# Altium footprint library CONNECTOR.PcbLib: 181 footprints (part 6 of 12)
Each footprint in its own frame and in the unit in brackets; x right, y up, seen from the top. Pads: shape width x height; smd on the part's side, far side on the other; paste and mask are expansions set on the pad; w line width, h text height; cw(c..) or ccw(c..) is an arc to the next point about the centre after c.
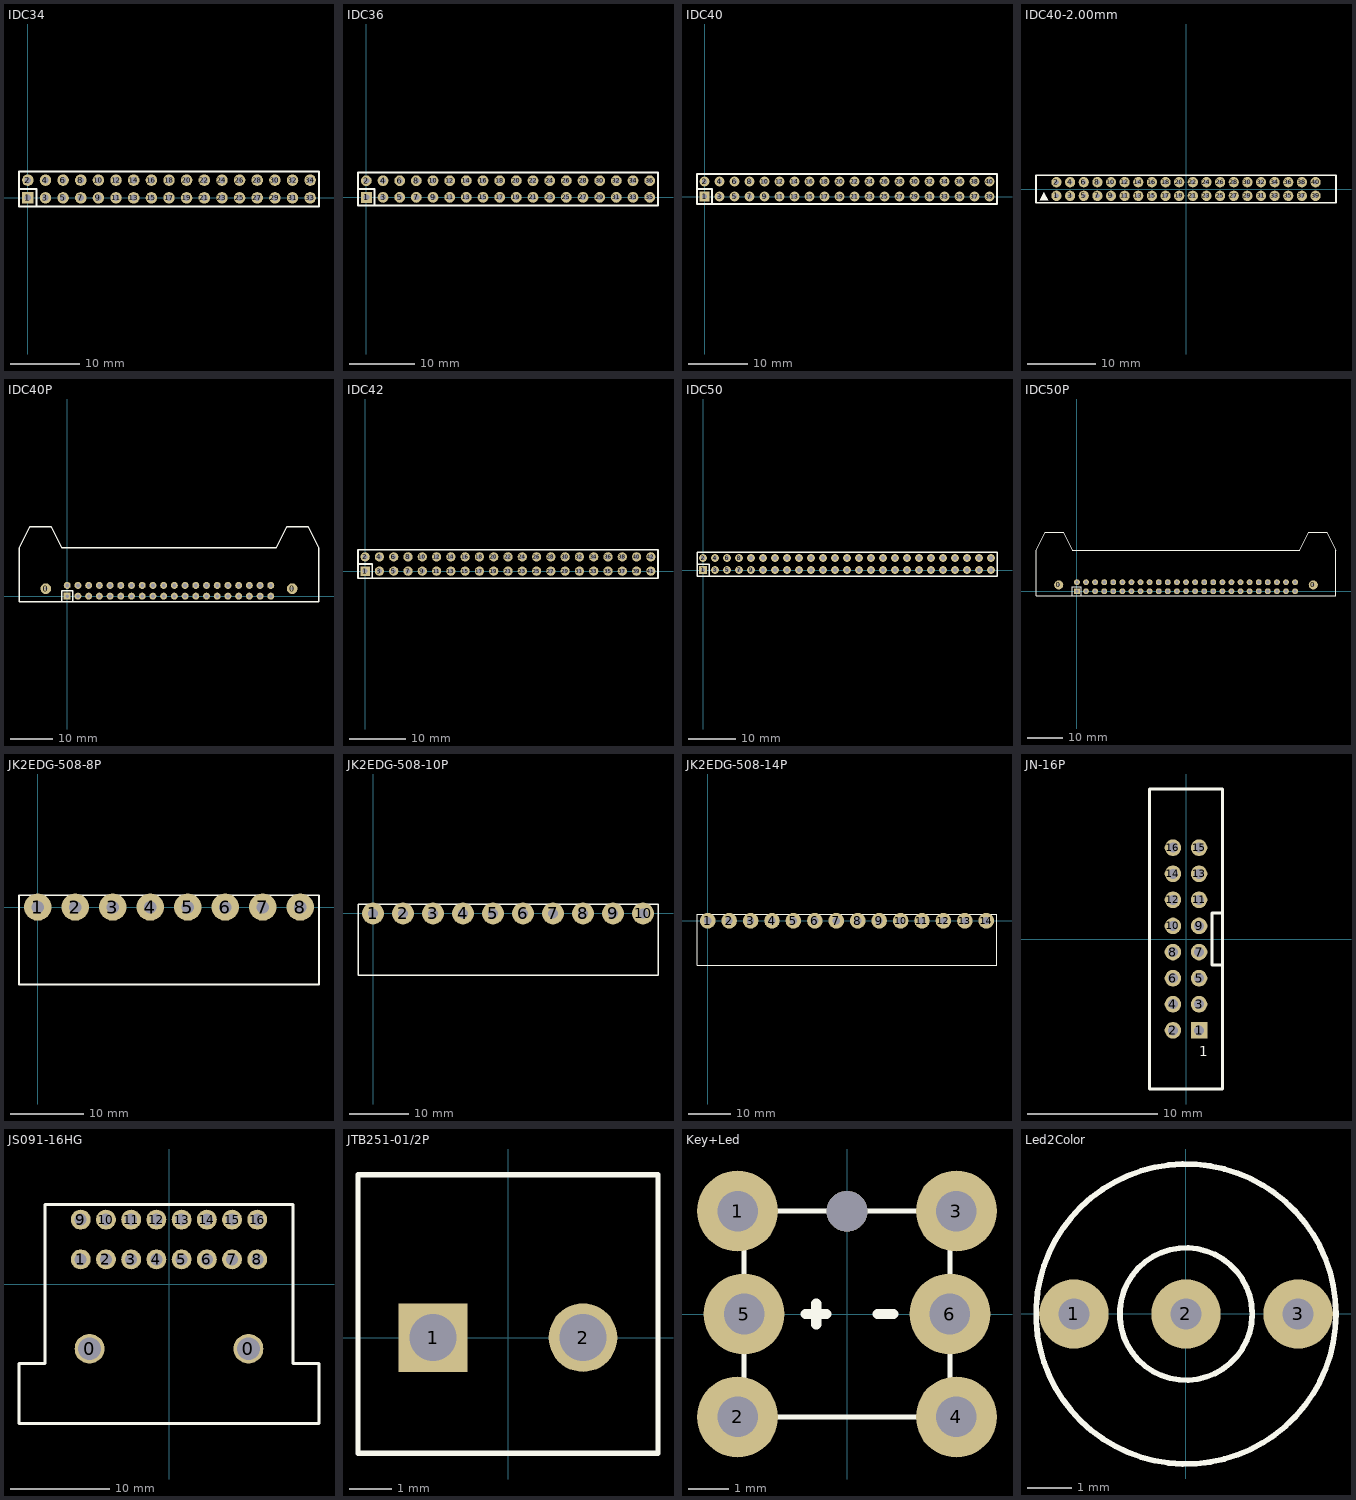
[diagram p5: the footprints below, top view; thin cyan lines are the x and y axes]

## IDC34 [mil]
pads (34):
  rect 65x65 hole 35: 1(0,0)
  round 65 hole 35: 2(0,100) 3(100,0) 4(100,100) 5(200,0) 6(200,100) 7(300,0) 8(300,100) 9(400,0) 10(400,100) 11(500,0) 12(500,100) 13(600,0) 14(600,100) 15(700,0) 16(700,100) 17(800,0) 18(800,100) 19(900,0) 20(900,100) 21(1000,0) 22(1000,100) 23(1100,0) 24(1100,100) 25(1200,0) 26(1200,100) 27(1300,0) 28(1300,100) 29(1400,0) 30(1400,100) 31(1500,0) 32(1500,100) 33(1600,0) 34(1600,100)
Top Overlay:
  lines w12: -50,50 50,50 50,-50 ; -50,-50 -50,150 1650,150 1650,-50 -50,-50

## IDC36 [mil]
pads (36):
  rect 65x65 hole 35: 1(0,0)
  round 65 hole 35: 2(0,100) 3(100,0) 4(100,100) 5(200,0) 6(200,100) 7(300,0) 8(300,100) 9(400,0) 10(400,100) 11(500,0) 12(500,100) 13(600,0) 14(600,100) 15(700,0) 16(700,100) 17(800,0) 18(800,100) 19(900,0) 20(900,100) 21(1000,0) 22(1000,100) 23(1100,0) 24(1100,100) 25(1200,0) 26(1200,100) 27(1300,0) 28(1300,100) 29(1400,0) 30(1400,100) 31(1500,0) 32(1500,100) 33(1600,0) 34(1600,100) 35(1700,0) 36(1700,100)
Top Overlay:
  lines w12: -50,50 50,50 50,-50 ; -50,-50 -50,150 1750,150 1750,-50 -50,-50

## IDC40 [mil]
pads (40):
  rect 65x65 hole 35: 1(0,0)
  round 65 hole 35: 2(0,100) 3(100,0) 4(100,100) 5(200,0) 6(200,100) 7(300,0) 8(300,100) 9(400,0) 10(400,100) 11(500,0) 12(500,100) 13(600,0) 14(600,100) 15(700,0) 16(700,100) 17(800,0) 18(800,100) 19(900,0) 20(900,100) 21(1000,0) 22(1000,100) 23(1100,0) 24(1100,100) 25(1200,0) 26(1200,100) 27(1300,0) 28(1300,100) 29(1400,0) 30(1400,100) 31(1500,0) 32(1500,100) 33(1600,0) 34(1600,100) 35(1700,0) 36(1700,100) 37(1800,0) 38(1800,100) 39(1900,0) 40(1900,100)
Top Overlay:
  lines w12: -50,50 50,50 50,-50 ; -50,-50 -50,150 1950,150 1950,-50 -50,-50

## IDC40-2.00mm [mm] "2mm间距,焊接排线座"
height 6.5
pads (40):
  round 1.5 hole 0.7: 1(-19,-1) 2(-19,1) 3(-17,-1) 4(-17,1) 5(-15,-1) 6(-15,1) 7(-13,-1) 8(-13,1) 9(-11,-1) 10(-11,1) 11(-9,-1) 12(-9,1) 13(-7,-1) 14(-7,1) 15(-5,-1) 16(-5,1) 17(-3,-1) 18(-3,1) 19(-1,-1) 20(-1,1) 21(1,-1) 22(1,1) 23(3,-1) 24(3,1) 25(5,-1) 26(5,1) 27(7,-1) 28(7,1) 29(9,-1) 30(9,1) 31(11,-1) 32(11,1) 33(13,-1) 34(13,1) 35(15,-1) 36(15,1) 37(17,-1) 38(17,1) 39(19,-1) 40(19,1)
Top Overlay:
  region: -20.828,-0.457 -21.438,-1.676 -20.218,-1.676
  lines w0.254: -22,-2 -22,2 22,2 22,-2 -22,-2

## IDC40P [mil]
pads (42):
  round 100 hole 28: 0(-200,70) 0(2100,70)
  rect 65x65 hole 35: 1(0,0)
  round 65 hole 35: 2(0,100) 3(100,0) 4(100,100) 5(200,0) 6(200,100) 7(300,0) 8(300,100) 9(400,0) 10(400,100) 11(500,0) 12(500,100) 13(600,0) 14(600,100) 15(700,0) 16(700,100) 17(800,0) 18(800,100) 19(900,0) 20(900,100) 21(1000,0) 22(1000,100) 23(1100,0) 24(1100,100) 25(1200,0) 26(1200,100) 27(1300,0) 28(1300,100) 29(1400,0) 30(1400,100) 31(1500,0) 32(1500,100) 33(1600,0) 34(1600,100) 35(1700,0) 36(1700,100) 37(1800,0) 38(1800,100) 39(1900,0) 40(1900,100)
Top Overlay:
  lines w12: -50,-50 -50,50 50,50 50,-50 ; -450,-50 2350,-50 2350,450 2250,650 2050,650 1950,450 -50,450 -150,650 -350,650 -450,450 -450,-50

## IDC42 [mil]
height 275.59
pads (42):
  rect 65x65 hole 35: 1(0,0)
  round 65 hole 35: 2(0,100) 3(100,0) 4(100,100) 5(200,0) 6(200,100) 7(300,0) 8(300,100) 9(400,0) 10(400,100) 11(500,0) 12(500,100) 13(600,0) 14(600,100) 15(700,0) 16(700,100) 17(800,0) 18(800,100) 19(900,0) 20(900,100) 21(1000,0) 22(1000,100) 23(1100,0) 24(1100,100) 25(1200,0) 26(1200,100) 27(1300,0) 28(1300,100) 29(1400,0) 30(1400,100) 31(1500,0) 32(1500,100) 33(1600,0) 34(1600,100) 35(1700,0) 36(1700,100) 37(1800,0) 38(1800,100) 39(1900,0) 40(1900,100) 41(2000,0) 42(2000,100)
Top Overlay:
  lines w12: -50,50 50,50 50,-50 ; -50,-50 2050,-50 2050,150 -50,150 -50,-50

## IDC50 [mil]
pads (50):
  rect 65x65 hole 35: 1(0,0)
  round 65 hole 35: 2(0,100) 3(100,0) 4(100,100) 5(200,0) 6(200,100) 7(300,0) 8(300,100) 9(400,0) 10(400,100) 11(500,0) 12(500,100) 13(600,0) 14(600,100) 15(700,0) 16(700,100) 17(800,0) 18(800,100) 19(900,0) 20(900,100) 21(1000,0) 22(1000,100) 23(1100,0) 24(1100,100) 25(1200,0) 26(1200,100) 27(1300,0) 28(1300,100) 29(1400,0) 30(1400,100) 31(1500,0) 32(1500,100) 33(1600,0) 34(1600,100) 35(1700,0) 36(1700,100) 37(1800,0) 38(1800,100) 39(1900,0) 40(1900,100) 41(2000,0) 42(2000,100) 43(2100,0) 44(2100,100) 45(2200,0) 46(2200,100) 47(2300,0) 48(2300,100) 49(2400,0) 50(2400,100)
Top Overlay:
  lines w12: -50,50 50,50 50,-50 ; -50,-50 -50,150 2450,150 2450,-50 -50,-50

## IDC50P [mil]
pads (52):
  round 100 hole 28: 0(-200,70) 0(2600,70)
  rect 65x65 hole 35: 1(0,0)
  round 65 hole 35: 2(0,100) 3(100,0) 4(100,100) 5(200,0) 6(200,100) 7(300,0) 8(300,100) 9(400,0) 10(400,100) 11(500,0) 12(500,100) 13(600,0) 14(600,100) 15(700,0) 16(700,100) 17(800,0) 18(800,100) 19(900,0) 20(900,100) 21(1000,0) 22(1000,100) 23(1100,0) 24(1100,100) 25(1200,0) 26(1200,100) 27(1300,0) 28(1300,100) 29(1400,0) 30(1400,100) 31(1500,0) 32(1500,100) 33(1600,0) 34(1600,100) 35(1700,0) 36(1700,100) 37(1800,0) 38(1800,100) 39(1900,0) 40(1900,100) 41(2000,0) 42(2000,100) 43(2100,0) 44(2100,100) 45(2200,0) 46(2200,100) 47(2300,0) 48(2300,100) 49(2400,0) 50(2400,100)
Top Overlay:
  lines w12: -50,-50 -50,50 50,50 50,-50 ; -450,-50 2850,-50 2850,450 2750,650 2550,650 2450,450 -50,450 -150,650 -350,650 -450,450 -450,-50

## JK2EDG-508-8P [mm] "5.08mm绿色8pin"
height 7.8
pads (8):
  round 3.7 hole 1.7: 1(0,0) 2(5.08,0) 3(10.16,0) 4(15.24,0) 5(20.32,0) 6(25.4,0) 7(30.48,0) 8(35.56,0)
Top Overlay:
  lines w0.254: -2.54,-10.5 38.1,-10.5 38.1,1.6 -2.54,1.6 -2.54,-10.5

## JK2EDG-508-10P [mm] "5.08mm绿色10pin"
height 7.8
pads (10):
  round 3.7 hole 1.7: 1(0,0) 2(5.08,0) 3(10.16,0) 4(15.24,0) 5(20.32,0) 6(25.4,0) 7(30.48,0) 8(35.56,0) 9(40.64,0) 10(45.72,0)
Top Overlay:
  lines w0.254: -2.54,-10.5 48.26,-10.5 48.26,1.6 -2.54,1.6 -2.54,-10.5

## JK2EDG-508-14P [mm] "5.08mm绿色14pin"
height 7.8
pads (14):
  round 3.7 hole 1.7: 1(0,0) 2(5.08,0) 3(10.16,0) 4(15.24,0) 5(20.32,0) 6(25.4,0) 7(30.48,0) 8(35.56,0) 9(40.64,0) 10(45.72,0) 11(50.8,0) 12(55.88,0) 13(60.96,0) 14(66.04,0)
Top Overlay:
  lines w0.254: -2.54,-10.5 -2.54,1.6 68.58,1.6 68.58,-10.5 -2.54,-10.5

## JN-16P [mm] "Pitch 2.0mm 简牛插座"
height 6
pads (16):
  rect 1.27x1.27 hole 0.762: 1(1,-7)
  round 1.27 hole 0.762: 2(-1,-7) 3(1,-5) 4(-1,-5) 5(1,-3) 6(-1,-3) 7(1,-1) 8(-1,-1) 9(1,1) 10(-1,1) 11(1,3) 12(-1,3) 13(1,5) 14(-1,5) 15(1,7) 16(-1,7)
Top Overlay:
  lines w0.254: 2.8,-2 2,-2 2,2 2.8,2 ; -2.8,-11.5 -2.8,11.5 2.8,11.5 2.8,-11.5 -2.8,-11.5
  text "1" at 1,-9 h0.76

## JS091-16HG [mm]
pads (18):
  round 3 hole 2.3: 0(-8,-6.5) 0(8,-6.5)
  round 2 hole 1.2: 1(-8.89,2.5) 2(-6.35,2.5) 3(-3.81,2.5) 4(-1.27,2.5) 5(1.27,2.5) 6(3.81,2.5) 7(6.35,2.5) 8(8.89,2.5) 9(-8.89,6.5) 10(-6.35,6.5) 11(-3.81,6.5) 12(-1.27,6.5) 13(1.27,6.5) 14(3.81,6.5) 15(6.35,6.5) 16(8.89,6.5)
Top Overlay:
  lines w0.3: -15.1,-14 -15.1,-8 -12.5,-8 -12.5,8 12.5,8 12.5,-8 15.1,-8 15.1,-14 -15.1,-14

## JTB251-01/2P [mm]
height 8.2
pads (2):
  rect 1.6x1.6 hole 1.1: 1(-1.75,0)
  round 1.6 hole 1.1: 2(1.75,0)
Top Overlay:
  lines w0.127: -3.5,-2.7 3.5,-2.7 3.5,3.8 -3.5,3.8 -3.5,-2.7

## Key+Led [mm] "带LED按键"
height 19
pads (6):
  round 2 hole 1: 1(-2.7,2.54) 2(-2.7,-2.54) 3(2.7,2.54) 4(2.7,-2.54) 5(-2.54,0) 6(2.54,0)
via 0,2.54 diameter 1 hole 1
Top Overlay:
  lines w0.127: -2.54,-1.778 -2.54,-0.762 ; -2.54,0.762 -2.54,1.778 ; -1.778,-2.54 1.778,-2.54 ; -1.778,2.54 1.778,2.54 ; 2.54,-1.778 2.54,-0.762 ; 2.54,0.762 2.54,1.778
  lines w0.254: -1.016,0 -0.508,0 ; -0.762,-0.254 -0.762,0.254 ; 0.762,0 1.143,0

## Led2Color [mil] "3mm diameter"
height 196.85
pads (3):
  round 62 hole 28: 1(-100,0) 2(0,0) 3(100,0)
Top Overlay:
  circle w5: c0,0 r59.06
  circle w5: c0,0 r133.86